# EAGLE library part MCP14700 (library my_ic)
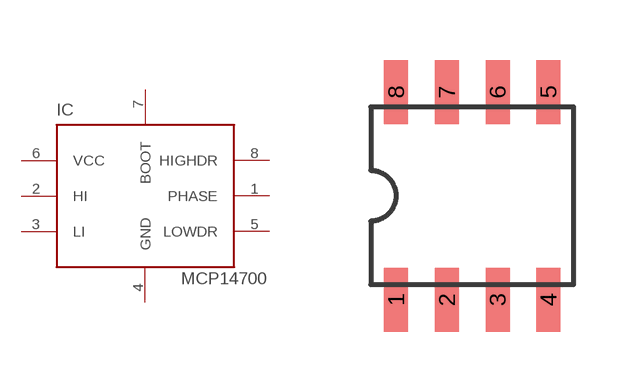
[diagram p33: symbol with the pads of SOP8; footprint SOP8]

Designator prefix IC

## MCP14700  [SOP8]
1  PHASE  in
2  HI  in
3  LI  in
4  GND  pwr
5  LOWDR  out
6  VCC  pwr
7  BOOT  pwr
8  HIGHDR  out

## Footprint SOP8 (pad centres in mm)
SOP8 Source: http://www.rohm.com/products/databook/motor/pdf/bd623x_series-e.pdf
smd 0.6 x 1.6: 1 -1.905,-2.6; 2 -0.635,-2.6; 3 0.635,-2.6; 4 1.905,-2.6; 5 1.905,2.6; 6 0.635,2.6; 7 -0.635,2.6; 8 -1.905,2.6